# Altium schematic symbol library TI_National_Semiconductor_LM1117DTX_1_8_NOPB.SchLib: 1 symbol
Pins are listed as number, name and electrical type; pins without a type are passive.

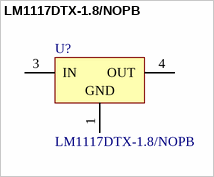
[diagram p0: symbol LM1117DTX-1.8/NOPB]

## LM1117DTX-1.8/NOPB
designator U?
800mA Low-Dropout Linear Regulator, 3-pin TO-252, Pb-Free; Manufacturer: National Semiconductor; PackageTopMarking: NSUZXYTT*LM1117*DT-1.8; PowerWise: N; CompType: LDO IC; DatasheetVersion: Apr-2006; PinCount: 3; Code_JEDEC: TO-252-AA; PackageVersion: revD, Feb-2009; PackageDescription: TO252, Molded, Jedec, 6.8 x 6.10 x 2.30mm Body, 3 Lead, 2.28mm Pitch, Surface Mount; RoHS: Y; PackageReference: TD03B; PartNumber: LM1117DTX-1.8/NOPB
footprint TD03B_L
footprint TD03B_M
footprint TD03B_N
pins: 1 GND (power), 3 IN (power), 4 OUT (power)